# Altium schematic symbol library LQM2HPN4R7MG0L.SchLib: 1 symbol
Pins are listed as number, name and electrical type; pins without a type are passive.

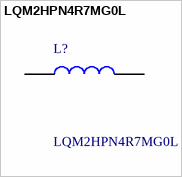
[diagram p0: symbol LQM2HPN4R7MG0L]

## LQM2HPN4R7MG0L
designator L?
Inductor SMD 1008 shielded 4.7uH Murata LQM2HP_G0 Series 4700 nH +/-20% Ferrite Multilayer SMD Inductor, 1008 Case, SRF: 0.025GHz 1.1A dc 138m Rdc; Manufacturer_Name: Murata Electronics; Geometry.Height: 1mm; Mouser Part Number: 81-LQM2HPN4R7MG0L; Mouser Price/Stock: https://www.mouser.co.uk/ProductDetail/Murata-Electronics/LQM2HPN4R7MG0L?qs=%2F%252BYoplLUB5jnkqM2%2FFTc3g%3D%3D; Manufacturer_Part_Number: LQM2HPN4R7MG0L; Datasheet Link: https://search.murata.co.jp/Ceramy/image/img/P02/JELF243B-0019.pdf
footprint LQM2HPN1R0MG0L
pins: 1, 2